# Altium footprint library P6_4.2.PcbLib: 1 footprints
Each footprint in its own frame and in the unit in brackets; x right, y up, seen from the top. Pads: shape width x height; smd on the part's side, far side on the other; paste and mask are expansions set on the pad; w line width, h text height; cw(c..) or ccw(c..) is an arc to the next point about the centre after c.
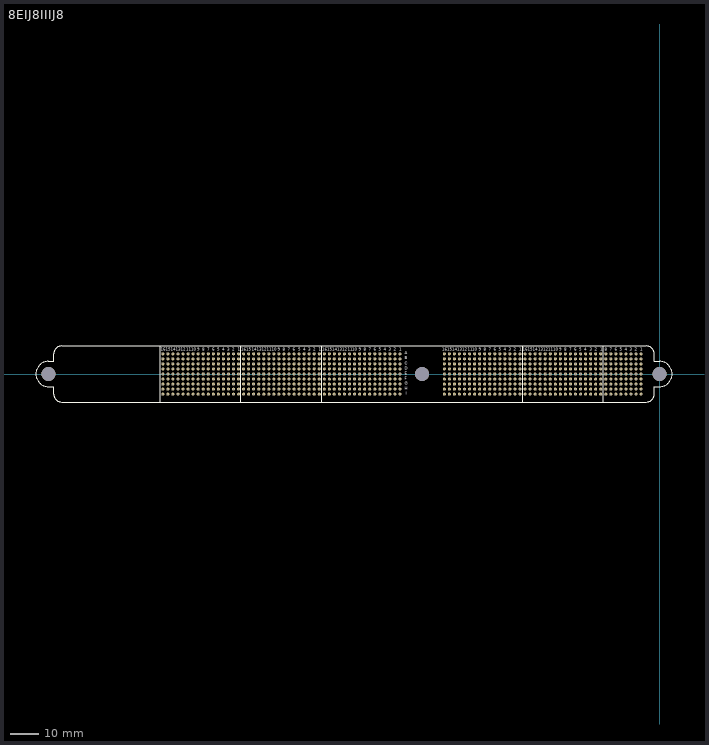
[diagram p0: the footprint, top view; thin cyan lines are the x and y axes]

## 8EIJ8IIIJ8 [mm]
pads (795):
  round 1.1 hole 0.56: J0A1(-6.6,7.2) J0A2(-8.4,7.2) J0A3(-10.2,7.2) J0A4(-12,7.2) J0A5(-13.8,7.2) J0A6(-15.6,7.2) J0A7(-17.4,7.2) J0A8(-19.2,7.2) J0B1(-6.6,5.4) J0B2(-8.4,5.4) J0B3(-10.2,5.4) J0B4(-12,5.4) J0B5(-13.8,5.4) J0B6(-15.6,5.4) J0B7(-17.4,5.4) J0B8(-19.2,5.4) J0C1(-6.6,3.6) J0C2(-8.4,3.6) J0C3(-10.2,3.6) J0C4(-12,3.6) J0C5(-13.8,3.6) J0C6(-15.6,3.6) J0C7(-17.4,3.6) J0C8(-19.2,3.6) J0D1(-6.6,1.8) J0D2(-8.4,1.8) J0D3(-10.2,1.8) J0D4(-12,1.8) J0D5(-13.8,1.8) J0D6(-15.6,1.8) J0D7(-17.4,1.8) J0D8(-19.2,1.8) J0E1(-6.6,0) J0E2(-8.4,0) J0E3(-10.2,0) J0E4(-12,0) J0E5(-13.8,0) J0E6(-15.6,0) J0E7(-17.4,0) J0E8(-19.2,0) J0F1(-6.6,-1.8) J0F2(-8.4,-1.8) J0F3(-10.2,-1.8) J0F4(-12,-1.8) J0F5(-13.8,-1.8) J0F6(-15.6,-1.8) J0F7(-17.4,-1.8) J0F8(-19.2,-1.8) J0G1(-6.6,-3.6) J0G2(-8.4,-3.6) J0G3(-10.2,-3.6) J0G4(-12,-3.6) J0G5(-13.8,-3.6) J0G6(-15.6,-3.6) J0G7(-17.4,-3.6) J0G8(-19.2,-3.6) J0H1(-6.6,-5.4) J0H2(-8.4,-5.4) J0H3(-10.2,-5.4) J0H4(-12,-5.4) J0H5(-13.8,-5.4) J0H6(-15.6,-5.4) J0H7(-17.4,-5.4) J0H8(-19.2,-5.4) J0I1(-6.6,-7.2) J0I2(-8.4,-7.2) J0I3(-10.2,-7.2) J0I4(-12,-7.2) J0I5(-13.8,-7.2) J0I6(-15.6,-7.2) J0I7(-17.4,-7.2) J0I8(-19.2,-7.2) J1A1(-21,7.2) J1A2(-22.8,7.2) J1A3(-24.6,7.2) J1A4(-26.4,7.2) J1A5(-28.2,7.2) J1A6(-30,7.2) J1A7(-31.8,7.2) J1A8(-33.6,7.2) J1A9(-35.4,7.2) J1A10(-37.2,7.2) J1A11(-39,7.2) J1A12(-40.8,7.2) J1A13(-42.6,7.2) J1A14(-44.4,7.2) J1A15(-46.2,7.2) J1A16(-48,7.2) J1B1(-21,5.4) J1B2(-22.8,5.4) J1B3(-24.6,5.4) J1B4(-26.4,5.4) J1B5(-28.2,5.4) J1B6(-30,5.4) J1B7(-31.8,5.4) J1B8(-33.6,5.4) J1B9(-35.4,5.4) J1B10(-37.2,5.4) J1B11(-39,5.4) J1B12(-40.8,5.4) J1B13(-42.6,5.4) J1B14(-44.4,5.4) J1B15(-46.2,5.4) J1B16(-48,5.4) J1C1(-21,3.6) J1C2(-22.8,3.6) J1C3(-24.6,3.6) J1C4(-26.4,3.6) J1C5(-28.2,3.6) J1C6(-30,3.6) J1C7(-31.8,3.6) J1C8(-33.6,3.6) J1C9(-35.4,3.6) J1C10(-37.2,3.6) J1C11(-39,3.6) J1C12(-40.8,3.6) J1C13(-42.6,3.6) J1C14(-44.4,3.6) J1C15(-46.2,3.6) J1C16(-48,3.6) J1D1(-21,1.8) J1D2(-22.8,1.8) J1D3(-24.6,1.8) J1D4(-26.4,1.8) J1D5(-28.2,1.8) J1D6(-30,1.8) J1D7(-31.8,1.8) J1D8(-33.6,1.8) J1D9(-35.4,1.8) J1D10(-37.2,1.8) J1D11(-39,1.8) J1D12(-40.8,1.8) J1D13(-42.6,1.8) J1D14(-44.4,1.8) J1D15(-46.2,1.8) J1D16(-48,1.8) J1E1(-21,0) J1E2(-22.8,0) J1E3(-24.6,0) J1E4(-26.4,0) J1E5(-28.2,0) J1E6(-30,0) J1E7(-31.8,0) J1E8(-33.6,0) J1E9(-35.4,0) J1E10(-37.2,0) J1E11(-39,0) J1E12(-40.8,0) J1E13(-42.6,0) J1E14(-44.4,0) J1E15(-46.2,0) J1E16(-48,0) J1F1(-21,-1.8) J1F2(-22.8,-1.8) J1F3(-24.6,-1.8) J1F4(-26.4,-1.8) J1F5(-28.2,-1.8) J1F6(-30,-1.8) J1F7(-31.8,-1.8) J1F8(-33.6,-1.8) J1F9(-35.4,-1.8) J1F10(-37.2,-1.8) J1F11(-39,-1.8) J1F12(-40.8,-1.8) J1F13(-42.6,-1.8) J1F14(-44.4,-1.8) J1F15(-46.2,-1.8) J1F16(-48,-1.8) J1G1(-21,-3.6) J1G2(-22.8,-3.6) J1G3(-24.6,-3.6) J1G4(-26.4,-3.6) J1G5(-28.2,-3.6) J1G6(-30,-3.6) J1G7(-31.8,-3.6) J1G8(-33.6,-3.6) J1G9(-35.4,-3.6) J1G10(-37.2,-3.6) J1G11(-39,-3.6) J1G12(-40.8,-3.6) J1G13(-42.6,-3.6) J1G14(-44.4,-3.6) J1G15(-46.2,-3.6) J1G16(-48,-3.6) J1H1(-21,-5.4) J1H2(-22.8,-5.4) J1H3(-24.6,-5.4) J1H4(-26.4,-5.4) J1H5(-28.2,-5.4) J1H6(-30,-5.4) J1H7(-31.8,-5.4) J1H8(-33.6,-5.4) J1H9(-35.4,-5.4) J1H10(-37.2,-5.4) J1H11(-39,-5.4) J1H12(-40.8,-5.4) J1H13(-42.6,-5.4) J1H14(-44.4,-5.4) J1H15(-46.2,-5.4) J1H16(-48,-5.4) J1I1(-21,-7.2) J1I2(-22.8,-7.2) J1I3(-24.6,-7.2) J1I4(-26.4,-7.2) J1I5(-28.2,-7.2) J1I6(-30,-7.2) J1I7(-31.8,-7.2) J1I8(-33.6,-7.2) J1I9(-35.4,-7.2) J1I10(-37.2,-7.2) J1I11(-39,-7.2) J1I12(-40.8,-7.2) J1I13(-42.6,-7.2) J1I14(-44.4,-7.2) J1I15(-46.2,-7.2) J1I16(-48,-7.2) J2A1(-49.8,7.2) J2A2(-51.6,7.2) J2A3(-53.4,7.2) J2A4(-55.2,7.2) J2A5(-57,7.2) J2A6(-58.8,7.2) J2A7(-60.6,7.2) J2A8(-62.4,7.2) J2A9(-64.2,7.2) J2A10(-66,7.2) J2A11(-67.8,7.2) J2A12(-69.6,7.2) J2A13(-71.4,7.2) J2A14(-73.2,7.2) J2A15(-75,7.2) J2A16(-76.8,7.2) J2B1(-49.8,5.4) J2B2(-51.6,5.4) J2B3(-53.4,5.4) J2B4(-55.2,5.4) J2B5(-57,5.4) J2B6(-58.8,5.4) J2B7(-60.6,5.4) J2B8(-62.4,5.4) J2B9(-64.2,5.4) J2B10(-66,5.4) J2B11(-67.8,5.4) J2B12(-69.6,5.4) J2B13(-71.4,5.4) J2B14(-73.2,5.4) J2B15(-75,5.4) J2B16(-76.8,5.4) J2C1(-49.8,3.6) J2C2(-51.6,3.6) J2C3(-53.4,3.6) J2C4(-55.2,3.6) J2C5(-57,3.6) J2C6(-58.8,3.6) J2C7(-60.6,3.6) J2C8(-62.4,3.6) J2C9(-64.2,3.6) J2C10(-66,3.6) J2C11(-67.8,3.6) J2C12(-69.6,3.6) J2C13(-71.4,3.6) J2C14(-73.2,3.6) J2C15(-75,3.6) J2C16(-76.8,3.6) J2D1(-49.8,1.8) J2D2(-51.6,1.8) J2D3(-53.4,1.8) J2D4(-55.2,1.8) J2D5(-57,1.8) J2D6(-58.8,1.8) J2D7(-60.6,1.8) J2D8(-62.4,1.8) J2D9(-64.2,1.8) J2D10(-66,1.8) J2D11(-67.8,1.8) J2D12(-69.6,1.8) J2D13(-71.4,1.8) J2D14(-73.2,1.8) J2D15(-75,1.8) J2D16(-76.8,1.8) J2E1(-49.8,0) J2E2(-51.6,0) J2E3(-53.4,0) J2E4(-55.2,0) J2E5(-57,0) J2E6(-58.8,0) J2E7(-60.6,0) J2E8(-62.4,0) J2E9(-64.2,0) J2E10(-66,0) J2E11(-67.8,0) J2E12(-69.6,0) J2E13(-71.4,0) J2E14(-73.2,0) J2E15(-75,0) J2E16(-76.8,0) J2F1(-49.8,-1.8) J2F2(-51.6,-1.8) J2F3(-53.4,-1.8) J2F4(-55.2,-1.8) J2F5(-57,-1.8) J2F6(-58.8,-1.8) J2F7(-60.6,-1.8) J2F8(-62.4,-1.8) J2F9(-64.2,-1.8) J2F10(-66,-1.8) J2F11(-67.8,-1.8) J2F12(-69.6,-1.8) J2F13(-71.4,-1.8) J2F14(-73.2,-1.8) J2F15(-75,-1.8) J2F16(-76.8,-1.8) J2G1(-49.8,-3.6) J2G2(-51.6,-3.6) J2G3(-53.4,-3.6) J2G4(-55.2,-3.6) J2G5(-57,-3.6) J2G6(-58.8,-3.6) J2G7(-60.6,-3.6) J2G8(-62.4,-3.6) J2G9(-64.2,-3.6) J2G10(-66,-3.6) J2G11(-67.8,-3.6) J2G12(-69.6,-3.6) J2G13(-71.4,-3.6) J2G14(-73.2,-3.6) J2G15(-75,-3.6) J2G16(-76.8,-3.6) J2H1(-49.8,-5.4) J2H2(-51.6,-5.4) J2H3(-53.4,-5.4) J2H4(-55.2,-5.4) J2H5(-57,-5.4) J2H6(-58.8,-5.4) J2H7(-60.6,-5.4) J2H8(-62.4,-5.4) J2H9(-64.2,-5.4) J2H10(-66,-5.4) J2H11(-67.8,-5.4) J2H12(-69.6,-5.4) J2H13(-71.4,-5.4) J2H14(-73.2,-5.4) J2H15(-75,-5.4) J2H16(-76.8,-5.4) J2I1(-49.8,-7.2) J2I2(-51.6,-7.2) J2I3(-53.4,-7.2) J2I4(-55.2,-7.2) J2I5(-57,-7.2) J2I6(-58.8,-7.2) J2I7(-60.6,-7.2) J2I8(-62.4,-7.2) J2I9(-64.2,-7.2) J2I10(-66,-7.2) J2I11(-67.8,-7.2) J2I12(-69.6,-7.2) J2I13(-71.4,-7.2) J2I14(-73.2,-7.2) J2I15(-75,-7.2) J2I16(-76.8,-7.2) J3A1(-92.62,7.2) J3A2(-94.42,7.2) J3A3(-96.22,7.2) J3A4(-98.02,7.2) J3A5(-99.82,7.2) J3A6(-101.62,7.2) J3A7(-103.42,7.2) J3A8(-105.22,7.2) J3A9(-107.02,7.2) J3A10(-108.82,7.2) J3A11(-110.62,7.2) J3A12(-112.42,7.2) J3A13(-114.22,7.2) J3A14(-116.02,7.2) J3A15(-117.82,7.2) J3A16(-119.62,7.2) J3B1(-92.62,5.4) J3B2(-94.42,5.4) J3B3(-96.22,5.4) J3B4(-98.02,5.4) J3B5(-99.82,5.4) J3B6(-101.6,5.4) J3B7(-103.42,5.4) J3B8(-105.22,5.4) J3B9(-107.02,5.4) J3B10(-108.839,5.4) J3B11(-110.62,5.4) J3B12(-112.42,5.4) J3B13(-114.22,5.4) J3B14(-116.078,5.4) J3B15(-117.82,5.4) J3B16(-119.62,5.4) J3C1(-92.62,3.6) J3C2(-94.42,3.6) J3C3(-96.22,3.6) J3C4(-98.02,3.6) J3C5(-99.82,3.6) J3C6(-101.6,3.6) J3C7(-103.42,3.6) J3C8(-105.22,3.6) J3C9(-107.02,3.6) J3C10(-108.839,3.6) J3C11(-110.62,3.6) J3C12(-112.42,3.6) J3C13(-114.22,3.6) J3C14(-116.078,3.6) J3C15(-117.82,3.6) J3C16(-119.62,3.6) J3D1(-92.62,1.8) J3D2(-94.42,1.8) J3D3(-96.22,1.8) J3D4(-98.02,1.8) J3D5(-99.82,1.8) J3D6(-101.6,1.8) J3D7(-103.42,1.8) J3D8(-105.22,1.8) J3D9(-107.02,1.8) J3D10(-108.839,1.8) J3D11(-110.62,1.8) J3D12(-112.42,1.8) J3D13(-114.22,1.8) J3D14(-116.078,1.8) J3D15(-117.82,1.8) J3D16(-119.62,1.8) J3E1(-92.62,0) J3E2(-94.42,0) J3E3(-96.22,0) J3E4(-98.02,0) J3E5(-99.82,0) J3E6(-101.6,0) J3E7(-103.42,0) J3E8(-105.22,0) J3E9(-107.02,0) J3E10(-108.839,0) J3E11(-110.62,0) J3E12(-112.42,0) J3E13(-114.22,0) J3E14(-116.078,0) J3E15(-117.82,0) J3E16(-119.62,0) J3F1(-92.62,-1.8) J3F2(-94.42,-1.8) J3F3(-96.22,-1.8) J3F4(-98.02,-1.8) J3F5(-99.82,-1.8) J3F6(-101.6,-1.8) J3F7(-103.42,-1.8) J3F8(-105.22,-1.8) J3F9(-107.02,-1.8) J3F10(-108.839,-1.8) J3F11(-110.62,-1.8) J3F12(-112.42,-1.8) J3F13(-114.22,-1.8) J3F14(-116.078,-1.8) J3F15(-117.82,-1.8) J3F16(-119.62,-1.8) J3G1(-92.62,-3.6) J3G2(-94.42,-3.6) J3G3(-96.22,-3.6) J3G4(-98.02,-3.6) J3G5(-99.82,-3.6) J3G6(-101.6,-3.6) J3G7(-103.42,-3.6) J3G8(-105.22,-3.6) J3G9(-107.02,-3.6) J3G10(-108.839,-3.6) J3G11(-110.62,-3.6) J3G12(-112.42,-3.6) J3G13(-114.22,-3.6) J3G14(-116.078,-3.6) J3G15(-117.82,-3.6) J3G16(-119.62,-3.6) J3H1(-92.62,-5.4) J3H2(-94.42,-5.4) J3H3(-96.22,-5.4) J3H4(-98.02,-5.4) J3H5(-99.82,-5.4) J3H6(-101.6,-5.4) J3H7(-103.42,-5.4) J3H8(-105.22,-5.4) J3H9(-107.02,-5.4) J3H10(-108.839,-5.4) J3H11(-110.62,-5.4) J3H12(-112.42,-5.4) J3H13(-114.22,-5.4) J3H14(-116.078,-5.4) J3H15(-117.82,-5.4) J3H16(-119.62,-5.4) J3I1(-92.62,-7.2) J3I2(-94.42,-7.2) J3I3(-96.22,-7.2) J3I4(-98.02,-7.2) J3I5(-99.82,-7.2) J3I6(-101.6,-7.2) J3I7(-103.42,-7.2) J3I8(-105.22,-7.2) J3I9(-107.02,-7.2) J3I10(-108.839,-7.2) J3I11(-110.62,-7.2) J3I12(-112.42,-7.2) J3I13(-114.22,-7.2) J3I14(-116.078,-7.2) J3I15(-117.82,-7.2) J3I16(-119.62,-7.2) J4A1(-121.42,7.2) J4A2(-123.22,7.2) J4A3(-125.02,7.2) J4A4(-126.82,7.2) J4A5(-128.62,7.2) J4A6(-130.42,7.2) J4A7(-132.22,7.2) J4A8(-134.02,7.2) J4A9(-135.82,7.2) J4A10(-137.62,7.2) J4A11(-139.42,7.2) J4A12(-141.22,7.2) J4A13(-143.02,7.2) J4A14(-144.82,7.2) J4A15(-146.62,7.2) J4A16(-148.42,7.2) J4B1(-121.42,5.4) J4B2(-123.22,5.4) J4B3(-125.02,5.4) J4B4(-126.82,5.4) J4B5(-128.62,5.4) J4B6(-130.4,5.4) J4B7(-132.22,5.4) J4B8(-134.02,5.4) J4B9(-135.82,5.4) J4B10(-137.639,5.4) J4B11(-139.42,5.4) J4B12(-141.22,5.4) J4B13(-143.02,5.4) J4B14(-144.878,5.4) J4B15(-146.62,5.4) J4B16(-148.42,5.4) J4C1(-121.42,3.6) J4C2(-123.22,3.6) J4C3(-125.02,3.6) J4C4(-126.82,3.6) J4C5(-128.62,3.6) J4C6(-130.4,3.6) J4C7(-132.22,3.6) J4C8(-134.02,3.6) J4C9(-135.82,3.6) J4C10(-137.639,3.6) J4C11(-139.42,3.6) J4C12(-141.22,3.6) J4C13(-143.02,3.6) J4C14(-144.878,3.6) J4C15(-146.62,3.6) J4C16(-148.42,3.6) J4D1(-121.42,1.8) J4D2(-123.22,1.8) J4D3(-125.02,1.8) J4D4(-126.82,1.8) J4D5(-128.62,1.8) J4D6(-130.4,1.8) J4D7(-132.22,1.8) J4D8(-134.02,1.8) J4D9(-135.82,1.8) J4D10(-137.639,1.8) J4D11(-139.42,1.8) J4D12(-141.22,1.8) J4D13(-143.02,1.8) J4D14(-144.878,1.8) J4D15(-146.62,1.8) J4D16(-148.42,1.8) J4E1(-121.42,0) J4E2(-123.22,0) J4E3(-125.02,0) J4E4(-126.82,0) J4E5(-128.62,0) J4E6(-130.4,0) J4E7(-132.22,0) J4E8(-134.02,0) J4E9(-135.82,0) J4E10(-137.639,0) J4E11(-139.42,0) J4E12(-141.22,0) J4E13(-143.02,0) J4E14(-144.878,0) J4E15(-146.62,0) J4E16(-148.42,0) J4F1(-121.42,-1.8) J4F2(-123.22,-1.8) J4F3(-125.02,-1.8) J4F4(-126.82,-1.8) J4F5(-128.62,-1.8) J4F6(-130.4,-1.8) J4F7(-132.22,-1.8) J4F8(-134.02,-1.8) J4F9(-135.82,-1.8) J4F10(-137.639,-1.8) J4F11(-139.42,-1.8) J4F12(-141.22,-1.8) J4F13(-143.02,-1.8) J4F14(-144.878,-1.8) J4F15(-146.62,-1.8) J4F16(-148.42,-1.8) J4G1(-121.42,-3.6) J4G2(-123.22,-3.6) J4G3(-125.02,-3.6) J4G4(-126.82,-3.6) J4G5(-128.62,-3.6) J4G6(-130.4,-3.6) J4G7(-132.22,-3.6) J4G8(-134.02,-3.6) J4G9(-135.82,-3.6) J4G10(-137.639,-3.6) J4G11(-139.42,-3.6) J4G12(-141.22,-3.6) J4G13(-143.02,-3.6) J4G14(-144.878,-3.6) J4G15(-146.62,-3.6) J4G16(-148.42,-3.6) J4H1(-121.42,-5.4) J4H2(-123.22,-5.4) J4H3(-125.02,-5.4) J4H4(-126.82,-5.4) J4H5(-128.62,-5.4) J4H6(-130.4,-5.4) J4H7(-132.22,-5.4) J4H8(-134.02,-5.4) J4H9(-135.82,-5.4) J4H10(-137.639,-5.4) J4H11(-139.42,-5.4) J4H12(-141.22,-5.4) J4H13(-143.02,-5.4) J4H14(-144.878,-5.4) J4H15(-146.62,-5.4) J4H16(-148.42,-5.4) J4I1(-121.42,-7.2) J4I2(-123.22,-7.2) J4I3(-125.02,-7.2) J4I4(-126.82,-7.2) J4I5(-128.62,-7.2) J4I6(-130.4,-7.2) J4I7(-132.22,-7.2) J4I8(-134.02,-7.2) J4I9(-135.82,-7.2) J4I10(-137.639,-7.2) J4I11(-139.42,-7.2) J4I12(-141.22,-7.2) J4I13(-143.02,-7.2) J4I14(-144.878,-7.2) J4I15(-146.62,-7.2) J4I16(-148.42,-7.2) J5A1(-150.22,7.2) J5A2(-152.02,7.2) J5A3(-153.82,7.2) J5A4(-155.62,7.2) J5A5(-157.42,7.2) J5A6(-159.22,7.2) J5A7(-161.02,7.2) J5A8(-162.82,7.2) J5A9(-164.62,7.2) J5A10(-166.42,7.2) J5A11(-168.22,7.2) J5A12(-170.02,7.2) J5A13(-171.82,7.2) J5A14(-173.62,7.2) J5A15(-175.42,7.2) J5A16(-177.22,7.2) J5B1(-150.22,5.4) J5B2(-152.02,5.4) J5B3(-153.82,5.4) J5B4(-155.62,5.4) J5B5(-157.42,5.4) J5B6(-159.2,5.4) J5B7(-161.02,5.4) J5B8(-162.82,5.4) J5B9(-164.62,5.4) J5B10(-166.439,5.4) J5B11(-168.22,5.4) J5B12(-170.02,5.4) J5B13(-171.82,5.4) J5B14(-173.678,5.4) J5B15(-175.42,5.4) J5B16(-177.22,5.4) J5C1(-150.22,3.6) J5C2(-152.02,3.6) J5C3(-153.82,3.6) J5C4(-155.62,3.6) J5C5(-157.42,3.6) J5C6(-159.2,3.6) J5C7(-161.02,3.6) J5C8(-162.82,3.6) J5C9(-164.62,3.6) J5C10(-166.439,3.6) J5C11(-168.22,3.6) J5C12(-170.02,3.6) J5C13(-171.82,3.6) J5C14(-173.678,3.6) J5C15(-175.42,3.6) J5C16(-177.22,3.6) J5D1(-150.22,1.8) J5D2(-152.02,1.8) J5D3(-153.82,1.8) J5D4(-155.62,1.8) J5D5(-157.42,1.8) J5D6(-159.2,1.8) J5D7(-161.02,1.8) J5D8(-162.82,1.8) J5D9(-164.62,1.8) J5D10(-166.439,1.8) J5D11(-168.22,1.8) J5D12(-170.02,1.8) J5D13(-171.82,1.8) J5D14(-173.678,1.8) J5D15(-175.42,1.8) J5D16(-177.22,1.8) J5E1(-150.22,0) J5E2(-152.02,0) J5E3(-153.82,0) J5E4(-155.62,0) J5E5(-157.42,0) J5E6(-159.2,0) J5E7(-161.02,0) J5E8(-162.82,0) J5E9(-164.62,0) J5E10(-166.439,0) J5E11(-168.22,0) J5E12(-170.02,0) J5E13(-171.82,0) J5E14(-173.678,0) J5E15(-175.42,0) J5E16(-177.22,0) J5F1(-150.22,-1.8) J5F2(-152.02,-1.8) J5F3(-153.82,-1.8) J5F4(-155.62,-1.8) J5F5(-157.42,-1.8) J5F6(-159.2,-1.8) J5F7(-161.02,-1.8) J5F8(-162.82,-1.8) J5F9(-164.62,-1.8) J5F10(-166.439,-1.8) J5F11(-168.22,-1.8) J5F12(-170.02,-1.8) J5F13(-171.82,-1.8) J5F14(-173.678,-1.8) J5F15(-175.42,-1.8) J5F16(-177.22,-1.8) J5G1(-150.22,-3.6) J5G2(-152.02,-3.6) J5G3(-153.82,-3.6) J5G4(-155.62,-3.6) J5G5(-157.42,-3.6) J5G6(-159.2,-3.6) J5G7(-161.02,-3.6) J5G8(-162.82,-3.6) J5G9(-164.62,-3.6) J5G10(-166.439,-3.6) J5G11(-168.22,-3.6) J5G12(-170.02,-3.6) J5G13(-171.82,-3.6) J5G14(-173.678,-3.6) J5G15(-175.42,-3.6) J5G16(-177.22,-3.6) J5H1(-150.22,-5.4) J5H2(-152.02,-5.4) J5H3(-153.82,-5.4) J5H4(-155.62,-5.4) J5H5(-157.42,-5.4) J5H6(-159.2,-5.4) J5H7(-161.02,-5.4) J5H8(-162.82,-5.4) J5H9(-164.62,-5.4) J5H10(-166.439,-5.4) J5H11(-168.22,-5.4) J5H12(-170.02,-5.4) J5H13(-171.82,-5.4) J5H14(-173.678,-5.4) J5H15(-175.42,-5.4) J5H16(-177.22,-5.4) J5I1(-150.22,-7.2) J5I2(-152.02,-7.2) J5I3(-153.82,-7.2) J5I4(-155.62,-7.2) J5I5(-157.42,-7.2) J5I6(-159.2,-7.2) J5I7(-161.02,-7.2) J5I8(-162.82,-7.2) J5I9(-164.62,-7.2) J5I10(-166.439,-7.2) J5I11(-168.22,-7.2) J5I12(-170.02,-7.2) J5I13(-171.82,-7.2) J5I14(-173.678,-7.2) J5I15(-175.42,-7.2) J5I16(-177.22,-7.2)
  round 5 hole 5: ""(-218.05,0) ""(-84.7,0) ""(0,0)
Top Overlay:
  lines w0.127: -178.181,-10 -178.181,10 ; -149.352,-10 -149.352,10 ; -120.523,-10 -120.523,10 ; -48.895,-10 -48.895,10 ; -20.066,-10 -20.066,10 ; -218.05,-4.5 cw(c-218.05,0) -218.05,4.5 -216.15,4.5 -216.15,7.2 cw(c-213.35,7.2) -213.35,10 -4.7,10 cw(c-4.7,7.2) -1.9,7.2 -1.9,4.5 0,4.5 cw(c0,0) 0,-4.5 -1.9,-4.5 -1.9,-7.2 cw(c-4.7,-7.2) -4.7,-10 -213.35,-10 cw(c-213.35,-7.2) -216.15,-7.2 -216.15,-4.5 -218.05,-4.5
  text "1" at -50.01,8 h1.78
  text "2" at -51.979,8 h1.78
  text "3" at -53.772,8 h1.78
  text "4" at -55.595,8 h1.78
  text "5" at -57.377,8 h1.78
  text "6" at -59.176,8 h1.78
  text "7" at -60.969,8 h1.78
  text "8" at -62.776,8 h1.78
  text "9" at -64.575,8 h1.78
  text "10" at -66.76,8 h1.78
  text "11" at -68.452,8 h1.78
  text "12" at -70.356,8 h1.78
  text "13" at -72.162,8 h1.78
  text "14" at -73.96,8 h1.78
  text "15" at -75.766,8 h1.78
  text "16" at -77.562,8 h1.78
  text "16" at -48.762,8 h1.78
  text "15" at -46.966,8 h1.78
  text "14" at -45.16,8 h1.78
  text "13" at -43.362,8 h1.78
  text "12" at -41.556,8 h1.78
  text "11" at -39.652,8 h1.78
  text "10" at -37.96,8 h1.78
  text "9" at -35.775,8 h1.78
  text "8" at -33.976,8 h1.78
  text "7" at -32.169,8 h1.78
  text "6" at -30.376,8 h1.78
  text "5" at -28.577,8 h1.78
  text "4" at -26.795,8 h1.78
  text "3" at -24.972,8 h1.78
  text "2" at -23.179,8 h1.78
  text "1" at -21.21,8 h1.78
  text "16" at -120.382,8 h1.78
  text "15" at -118.586,8 h1.78
  text "14" at -116.78,8 h1.78
  text "13" at -114.982,8 h1.78
  text "12" at -113.176,8 h1.78
  text "11" at -111.272,8 h1.78
  text "10" at -109.58,8 h1.78
  text "9" at -107.395,8 h1.78
  text "8" at -105.596,8 h1.78
  text "7" at -103.789,8 h1.78
  text "6" at -101.996,8 h1.78
  text "5" at -100.197,8 h1.78
  text "4" at -98.415,8 h1.78
  text "3" at -96.592,8 h1.78
  text "2" at -94.799,8 h1.78
  text "1" at -92.83,8 h1.78
  text "16" at -149.182,8 h1.78
  text "15" at -147.386,8 h1.78
  text "14" at -145.58,8 h1.78
  text "13" at -143.782,8 h1.78
  text "12" at -141.976,8 h1.78
  text "11" at -140.072,8 h1.78
  text "10" at -138.38,8 h1.78
  text "9" at -136.195,8 h1.78
  text "8" at -134.396,8 h1.78
  text "7" at -132.589,8 h1.78
  text "6" at -130.796,8 h1.78
  text "5" at -128.997,8 h1.78
  text "4" at -127.215,8 h1.78
  text "3" at -125.392,8 h1.78
  text "2" at -123.599,8 h1.78
  text "1" at -121.63,8 h1.78
  text "16" at -177.982,8 h1.78
  text "15" at -176.186,8 h1.78
  text "14" at -174.38,8 h1.78
  text "13" at -172.582,8 h1.78
  text "12" at -170.776,8 h1.78
  text "11" at -168.872,8 h1.78
  text "10" at -167.18,8 h1.78
  text "9" at -164.995,8 h1.78
  text "8" at -163.196,8 h1.78
  text "7" at -161.389,8 h1.78
  text "6" at -159.596,8 h1.78
  text "5" at -157.797,8 h1.78
  text "4" at -156.015,8 h1.78
  text "3" at -154.192,8 h1.78
  text "2" at -152.399,8 h1.78
  text "1" at -150.43,8 h1.78
  text "8" at -19.576,8 h1.78
  text "7" at -17.769,8 h1.78
  text "6" at -15.976,8 h1.78
  text "5" at -14.177,8 h1.78
  text "4" at -12.395,8 h1.78
  text "3" at -10.572,8 h1.78
  text "2" at -8.779,8 h1.78
  text "1" at -6.81,8 h1.78
  text "A" at -91,6.63 h1.78
  text "B" at -90.899,4.83 h1.78
  text "C" at -90.971,3.03 h1.78
  text "D" at -90.938,1.23 h1.78
  text "E" at -90.893,-0.57 h1.78
  text "F" at -90.853,-2.37 h1.78
  text "G" at -90.995,-4.17 h1.78
  text "H" at -90.914,-5.97 h1.78
  text "I" at -90.544,-7.77 h1.78
Bottom Overlay:
  lines w0.127: -178.181,-10 -178.181,10 ; -149.352,-10 -149.352,10 ; -120.523,-10 -120.523,10 ; -48.895,-10 -48.895,10 ; -20.066,-10 -20.066,10 ; -218.05,-4.5 cw(c-218.05,0) -218.05,4.5 -216.15,4.5 -216.15,7.2 cw(c-213.35,7.2) -213.35,10 -4.7,10 cw(c-4.7,7.2) -1.9,7.2 -1.9,4.5 0,4.5 cw(c0,0) 0,-4.5 -1.9,-4.5 -1.9,-7.2 cw(c-4.7,-7.2) -4.7,-10 -213.35,-10 cw(c-213.35,-7.2) -216.15,-7.2 -216.15,-4.5 -218.05,-4.5
  text "15" at -45.434,8.001 h1.78
  text "16" at -47.238,8.001 h1.78
  text "14" at -43.64,8.001 h1.78
  text "13" at -41.838,8.001 h1.78
  text "12" at -40.044,8.001 h1.78
  text "11" at -38.348,8.001 h1.78
  text "10" at -36.44,8.001 h1.78
  text "3" at -24.228,8.001 h1.78
  text "4" at -26.005,8.001 h1.78
  text "5" at -27.823,8.001 h1.78
  text "6" at -29.624,8.001 h1.78
  text "7" at -31.431,8.001 h1.78
  text "9" at -35.025,8.001 h1.78
  text "8" at -33.224,8.001 h1.78
  text "1" at -20.79,8.001 h1.78
  text "2" at -22.421,8.001 h1.78
  text "2" at -8.021,8.001 h1.78
  text "1" at -6.39,8.001 h1.78
  text "8" at -18.824,8.001 h1.78
  text "7" at -17.031,8.001 h1.78
  text "6" at -15.224,8.001 h1.78
  text "5" at -13.423,8.001 h1.78
  text "4" at -11.605,8.001 h1.78
  text "3" at -9.828,8.001 h1.78
  text "2" at -94.041,8.001 h1.78
  text "1" at -92.41,8.001 h1.78
  text "8" at -104.844,8.001 h1.78
  text "9" at -106.645,8.001 h1.78
  text "7" at -103.051,8.001 h1.78
  text "6" at -101.244,8.001 h1.78
  text "5" at -99.443,8.001 h1.78
  text "4" at -97.625,8.001 h1.78
  text "3" at -95.848,8.001 h1.78
  text "10" at -108.06,8.001 h1.78
  text "11" at -109.968,8.001 h1.78
  text "12" at -111.664,8.001 h1.78
  text "13" at -113.458,8.001 h1.78
  text "14" at -115.26,8.001 h1.78
  text "16" at -118.858,8.001 h1.78
  text "15" at -117.054,8.001 h1.78
  text "2" at -122.841,8.001 h1.78
  text "1" at -121.21,8.001 h1.78
  text "8" at -133.644,8.001 h1.78
  text "9" at -135.445,8.001 h1.78
  text "7" at -131.851,8.001 h1.78
  text "6" at -130.044,8.001 h1.78
  text "5" at -128.243,8.001 h1.78
  text "4" at -126.425,8.001 h1.78
  text "3" at -124.648,8.001 h1.78
  text "10" at -136.86,8.001 h1.78
  text "11" at -138.768,8.001 h1.78
  text "12" at -140.464,8.001 h1.78
  text "13" at -142.258,8.001 h1.78
  text "14" at -144.06,8.001 h1.78
  text "16" at -147.658,8.001 h1.78
  text "15" at -145.854,8.001 h1.78
  text "2" at -151.641,8.001 h1.78
  text "1" at -150.01,8.001 h1.78
  text "8" at -162.444,8.001 h1.78
  text "9" at -164.245,8.001 h1.78
  text "7" at -160.651,8.001 h1.78
  text "6" at -158.844,8.001 h1.78
  text "5" at -157.043,8.001 h1.78
  text "4" at -155.225,8.001 h1.78
  text "3" at -153.448,8.001 h1.78
  text "10" at -165.66,8.001 h1.78
  text "11" at -167.568,8.001 h1.78
  text "12" at -169.264,8.001 h1.78
  text "13" at -171.058,8.001 h1.78
  text "14" at -172.86,8.001 h1.78
  text "16" at -176.458,8.001 h1.78
  text "15" at -174.654,8.001 h1.78
  text "2" at -51.221,8.001 h1.78
  text "1" at -49.59,8.001 h1.78
  text "8" at -62.024,8.001 h1.78
  text "9" at -63.825,8.001 h1.78
  text "7" at -60.231,8.001 h1.78
  text "6" at -58.424,8.001 h1.78
  text "5" at -56.623,8.001 h1.78
  text "4" at -54.805,8.001 h1.78
  text "3" at -53.028,8.001 h1.78
  text "10" at -65.24,8.001 h1.78
  text "11" at -67.148,8.001 h1.78
  text "12" at -68.844,8.001 h1.78
  text "13" at -70.638,8.001 h1.78
  text "14" at -72.44,8.001 h1.78
  text "16" at -76.038,8.001 h1.78
  text "15" at -74.234,8.001 h1.78
  text "A" at -90,6.604 h1.78
  text "B" at -90.101,4.804 h1.78
  text "C" at -90.029,3.004 h1.78
  text "D" at -90.062,1.204 h1.78
  text "E" at -90.107,-0.596 h1.78
  text "F" at -90.147,-2.396 h1.78
  text "G" at -90.005,-4.196 h1.78
  text "H" at -90.086,-5.996 h1.78
  text "I" at -90.456,-7.796 h1.78